# EAGLE library part MAX4948EBA (library maxim)
Hex SPDT Data Switch Source: http://datasheets.maxim-ic.com/en/ds/MAX4947-MAX4948.pdf
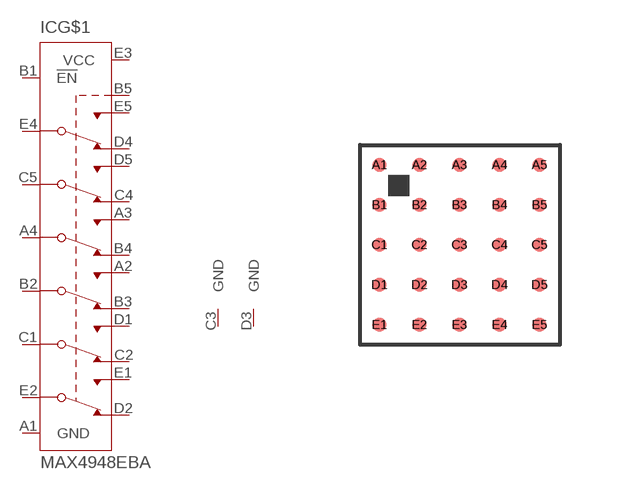
[diagram p217: symbol with the pads of UCSP25; footprint UCSP25]

Designator prefix IC; gates G$1=MAX4948 P1=GND P2=GND

## MAX4948EBA (MPN: MAX4948EBA+T; OC_FARNELL: unknown; OC_NEWARK: 42M5623)  [UCSP25]
A1  G$1:GND  pwr
A2  G$1:NO4
A3  G$1:NO3
A4  G$1:COM3
B1  G$1:!EN  in
B2  G$1:COM4
B3  G$1:NC4
B4  G$1:NC3
B5  G$1:CB  in
C1  G$1:COM5
C2  G$1:NC5
C3  P1:GND  pwr
C4  G$1:NC2
C5  G$1:COM2
D1  G$1:NO5
D2  G$1:NC6
D3  P2:GND  pwr
D4  G$1:NC1
D5  G$1:NO2
E1  G$1:NO6
E2  G$1:COM6
E3  G$1:VCC  pwr
E4  G$1:COM1
E5  G$1:NO1

## Footprint UCSP25 (pad centres in mm)
UCSP-25 Source: http://datasheets.maxim-ic.com/en/ds/MAX4947-MAX4948.pdf
smd 0.35 x 0.35: A1 -2,2; A2 -1,2; A3 0,2; A4 1,2; A5 2,2; B1 -2,1; B2 -1,1; B3 0,1; B4 1,1; B5 2,1; C1 -2,0; C2 -1,0; C3 0,0; C4 1,0; C5 2,0; D1 -2,-1; D2 -1,-1; D3 0,-1; D4 1,-1; D5 2,-1; E1 -2,-2; E2 -1,-2; E3 0,-2; E4 1,-2; E5 2,-2